# Altium schematic symbol library Schlib1.SchLib: 1 symbol
Pins are listed as number, name and electrical type; pins without a type are passive.

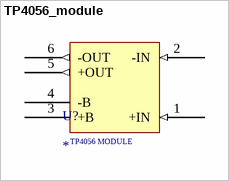
[diagram p0: symbol TP4056_module]

## TP4056_module
designator U?
footprint PCBComponent_1
pins: 1 +IN (in), 2 -IN (in), 3 +B, 4 -B, 5 +OUT (out), 6 -OUT (out)
text: TP4056 MODULE